# Altium schematic symbol library ZENER.SchLib: 1 symbol
Pins are listed as number, name and electrical type; pins without a type are passive.

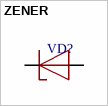
[diagram p0: symbol ZENER]

## ZENER
designator VD?
pins: 1 C, 2 A